# Altium footprint library CON TERM BLK-8-1771156.PcbLib: 1 footprints
Each footprint in its own frame and in the unit in brackets; x right, y up, seen from the top. Pads: shape width x height; smd on the part's side, far side on the other; paste and mask are expansions set on the pad; w line width, h text height; cw(c..) or ccw(c..) is an arc to the next point about the centre after c.
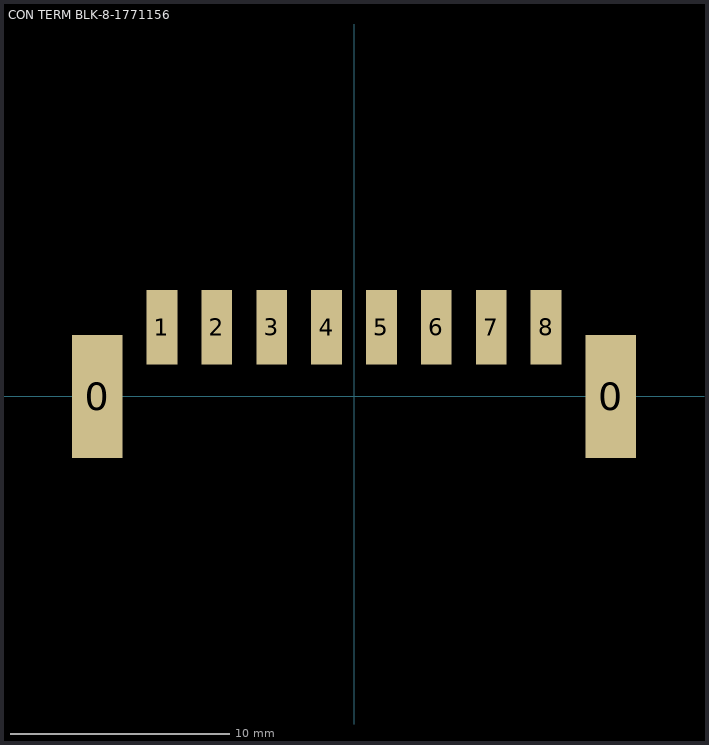
[diagram p0: the footprint, top view; thin cyan lines are the x and y axes]

## CON TERM BLK-8-1771156 [mm]
pads (10):
  rect 2.3x5.6 smd: 0(-11.7,0) 0(11.7,0)
  rect 1.4x3.4 smd: 1(-8.75,3.15) 2(-6.25,3.15) 3(-3.75,3.15) 4(-1.25,3.15) 5(1.25,3.15) 6(3.75,3.15) 7(6.25,3.15) 8(8.75,3.15)
3D body: height 9.01, standoff 0.01, extent -12.55,-2.5 12.55,4.5